# Altium schematic symbol library Dual_NPN_PNP.Schlib: 1 symbol
Pins are listed as number, name and electrical type; pins without a type are passive.

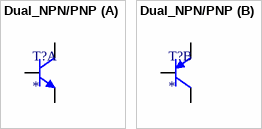
[diagram p0: symbol Dual_NPN/PNP]

## Dual_NPN/PNP
designator T?
part A pins: 1 Emitter NPN, 2 Base NPN, 6 Collector NPN
part B pins: 3 Collector PNP, 4 Emitter PNP, 5 Base PNP